# EAGLE library part NRF52832-QFAA-R (library IC)
IC RF TXRX+MCU BLUETOOTH 48VFQFN Manufacturer's datasheet <https://infocenter.nordicsemi.com/pdf/nRF52832_PS_v1.4.pdf>
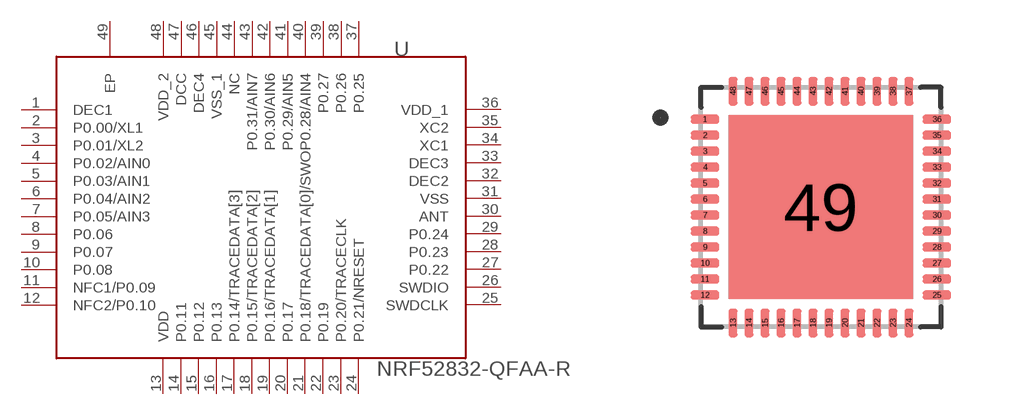
[diagram p19: symbol with the pads of QFN-48(6X6); footprint QFN-48(6X6)]

Designator prefix U

## NRF52832-QFAA-R (CREATED_BY: PCBLayout.com; DIGI-KEY_PART: 1490-1052-1-ND; MANUFACTURER: Nordic Semiconductor ASA; MPN: NRF52832-QFAA-R; PACKAGE: VFQFN-48)  [QFN-48(6X6)]
1  DEC1  pwr
2  P0.00/XL1  pas
3  P0.01/XL2  pas
4  P0.02/AIN0  pas
5  P0.03/AIN1  pas
6  P0.04/AIN2  pas
7  P0.05/AIN3  pas
8  P0.06
9  P0.07
10  P0.08
11  NFC1/P0.09  pas
12  NFC2/P0.10
13  VDD  pwr
14  P0.11
15  P0.12
16  P0.13
17  P0.14/TRACEDATA[3]
18  P0.15/TRACEDATA[2]
19  P0.16/TRACEDATA[1]
20  P0.17
21  P0.18/TRACEDATA[0]/SWO
22  P0.19
23  P0.20/TRACECLK
24  P0.21/NRESET
25  SWDCLK  in
26  SWDIO
27  P0.22
28  P0.23
29  P0.24
30  ANT  pas
31  VSS  pwr
32  DEC2  pwr
33  DEC3  pwr
34  XC1  in
35  XC2  in
36  VDD_1  pwr
37  P0.25
38  P0.26
39  P0.27
40  P0.28/AIN4  pas
41  P0.29/AIN5  pas
42  P0.30/AIN6  pas
43  P0.31/AIN7  pas
44  NC  pas
45  VSS_1  pwr
46  DEC4  pwr
47  DCC  pwr
48  VDD_2  pwr
49  EP  pwr

## Footprint QFN-48(6X6) (pad centres in mm)
Quad Flat No-Lead (QFN with Tab), 0.40 mm pitch; square, 12 pin X 12 pin, 6.00 mm L X 6.00 mm W X 0.90 mm H body PCB Libraries Packages
smd 0.71 x 0.22: 1 -2.9,2.2; 2 -2.9,1.8; 3 -2.9,1.4; 4 -2.9,1; 5 -2.9,0.6; 6 -2.9,0.2; 7 -2.9,-0.2; 8 -2.9,-0.6; 9 -2.9,-1; 10 -2.9,-1.4; 11 -2.9,-1.8; 12 -2.9,-2.2; 25 2.9,-2.2; 26 2.9,-1.8; 27 2.9,-1.4; 28 2.9,-1; 29 2.9,-0.6; 30 2.9,-0.2; 31 2.9,0.2; 32 2.9,0.6; 33 2.9,1; 34 2.9,1.4; 35 2.9,1.8; 36 2.9,2.2
smd 0.22 x 0.71: 13 -2.2,-2.9; 14 -1.8,-2.9; 15 -1.4,-2.9; 16 -1,-2.9; 17 -0.6,-2.9; 18 -0.2,-2.9; 19 0.2,-2.9; 20 0.6,-2.9; 21 1,-2.9; 22 1.4,-2.9; 23 1.8,-2.9; 24 2.2,-2.9; 37 2.2,2.9; 38 1.8,2.9; 39 1.4,2.9; 40 1,2.9; 41 0.6,2.9; 42 0.2,2.9; 43 -0.2,2.9; 44 -0.6,2.9; 45 -1,2.9; 46 -1.4,2.9; 47 -1.8,2.9; 48 -2.2,2.9
smd 4.6 x 4.6: 49 0,0